# Altium schematic symbol library Generic 0603 Capacitor.SchLib: 1 symbol
Pins are listed as number, name and electrical type; pins without a type are passive.

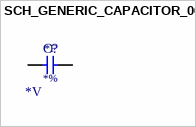
[diagram p0: symbol SCH_GENERIC_CAPACITOR_0603]

## SCH_GENERIC_CAPACITOR_0603
designator C?  Tolerance: *%  Capacitance: *F  Voltage: *V  (hidden comment: SCH_GENERIC_CAPACITOR_0603)
Generic SMD capacitor 0603
footprint PCB_GENERIC_SMD_0603
pins: 1, 2